# Altium schematic symbol library 45° Plastic Modular Jack.SchLib: 1 symbol
Pins are listed as number, name and electrical type; pins without a type are passive.

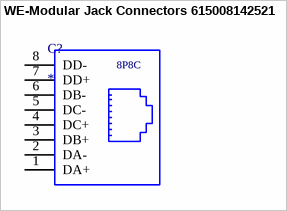
[diagram p0: symbol WE-Modular Jack Connectors 615008142521]

## WE-Modular Jack Connectors 615008142521
designator C?
WR-COM Modular Jack 45° Plastic 1x1 TH    8P8C; Manufacturer: Würth Elektronik eiSos GmbH; partNo: 615008142521; ComponentLink1 Description: Manufacturer; ComponentLink2 Description: Datasheet; NoPins: 8; ComponentLink1URL: http://www.we-online.de; ComponentLink2URL: http://katalog.we-online.de/em/datasheet/615008142521.pdf; Created by: Karrer Zheng; Created Date: 10/22/2014
footprint 615008142521 (45° Plastic 1x1 TH    8P8C)
pins: 1 DA+, 2 DA-, 3 DB+, 4 DC+, 5 DC-, 6 DB-, 7 DD+, 8 DD-
text: 8P8C